# Altium footprint library MODULE_DC2DC.PcbLib: 48 footprints (part 1 of 3)
Each footprint in its own frame and in the unit in brackets; x right, y up, seen from the top. Pads: shape width x height; smd on the part's side, far side on the other; paste and mask are expansions set on the pad; w line width, h text height; cw(c..) or ccw(c..) is an arc to the next point about the centre after c.
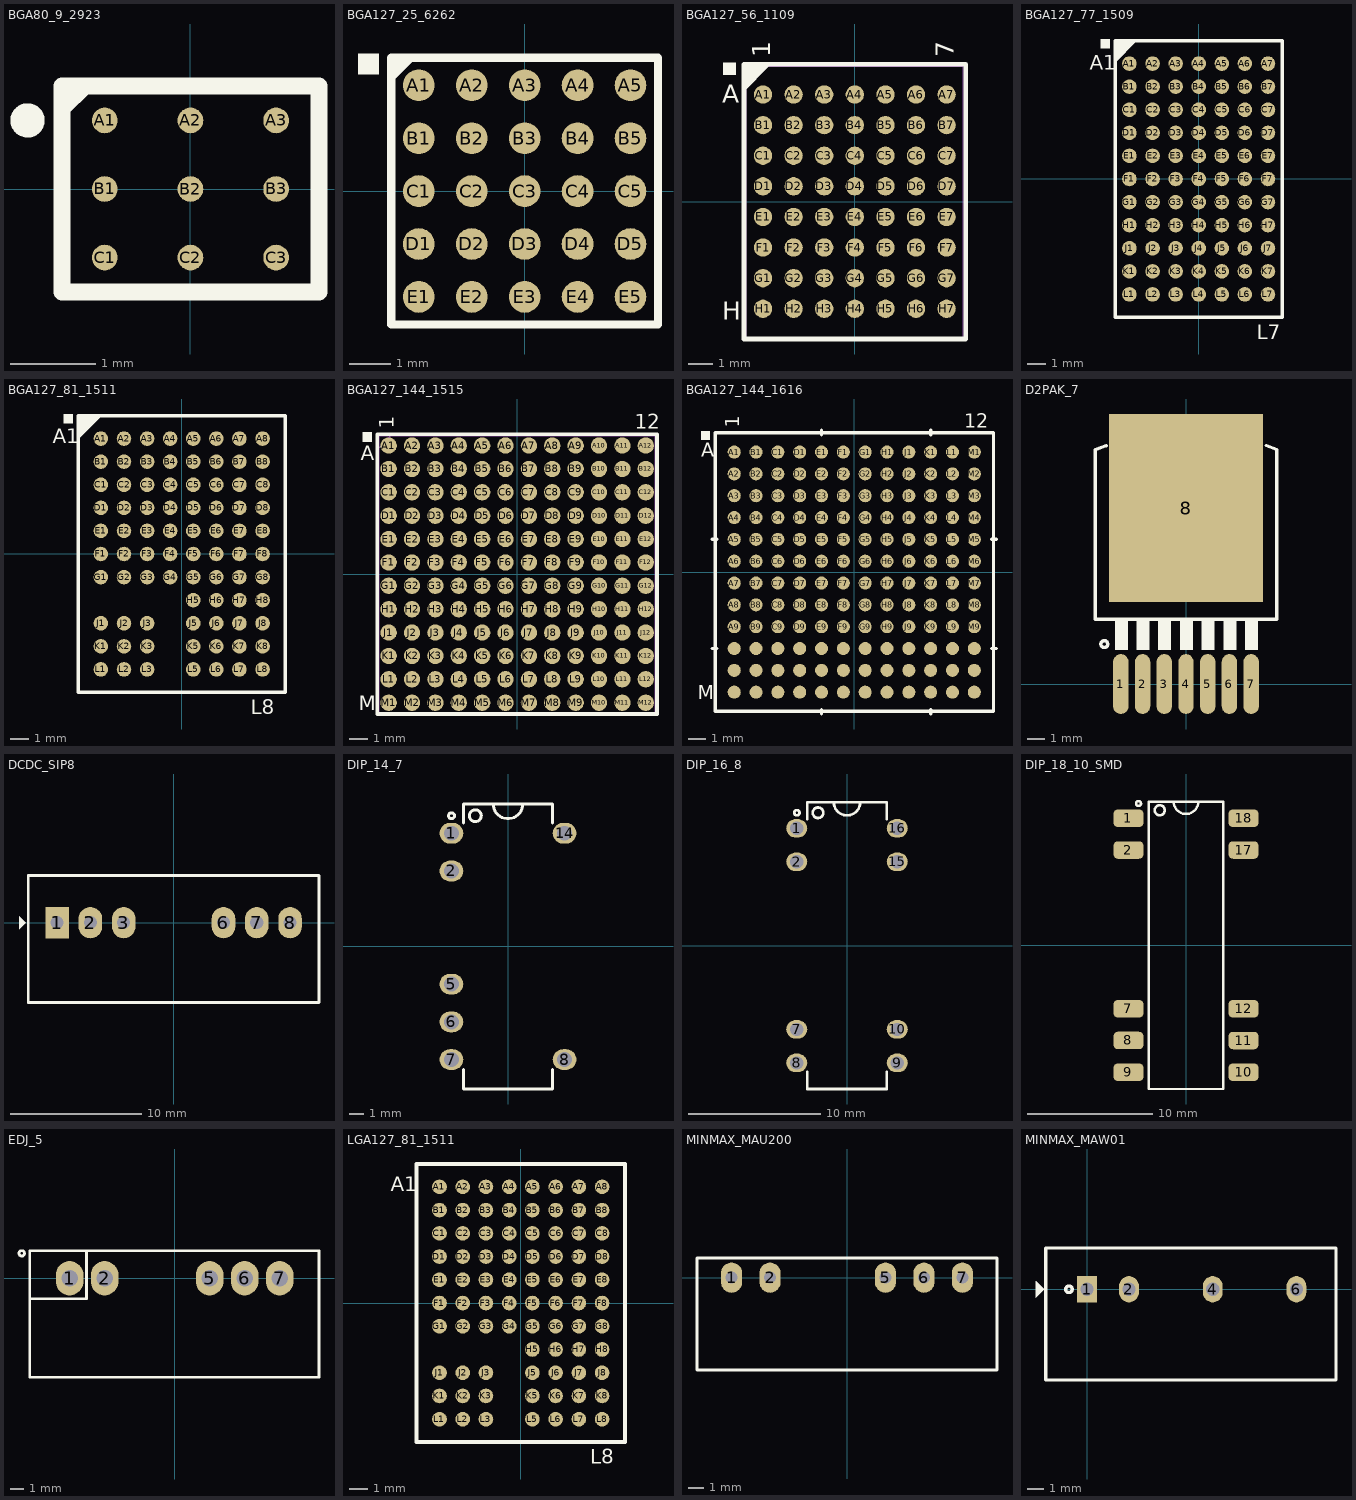
[diagram p0: the footprints below, top view; thin cyan lines are the x and y axes]

## BGA80_9_2923 [mm] "Module BGA, µSIP, 2.3x2.9x1mm, pitch 0.8mm"
pads (9):
  round 0.3 smd paste+0 mask+0.05: A1(-1,0.8) A2(0,0.8) A3(1,0.8) B1(-1,0) B2(0,0) B3(1,0) C1(-1,-0.8) C2(0,-0.8) C3(1,-0.8)
Top Overlay:
  circle w0.2: c-1.9,0.8 r0.1
  region: -1.5,1.2 -1.1,1.2 -1.5,0.8
  lines w0.2: -1.5,-1.2 -1.5,1.2 1.5,1.2 1.5,-1.2 -1.5,-1.2
3D body "SIP0009B.stp": height 1, standoff 0, extent -1.45,-1.15 1.45,1.15

## BGA127_25_6262 [mil] "BGA 5X5ball, pitch: 1.27mm, 6.25X6.25mm"
pads (25):
  round 30 smd mask+1.97: A1(-100,100) A2(-50,100) A3(0,100) A4(50,100) A5(100,100) B1(-100,50) B2(-50,50) B3(0,50) B4(50,50) B5(100,50) C1(-100,0) C2(-50,0) C3(0,0) C4(50,0) C5(100,0) D1(-100,-50) D2(-50,-50) D3(0,-50) D4(50,-50) D5(100,-50) E1(-100,-100) E2(-50,-100) E3(0,-100) E4(50,-100) E5(100,-100)
Top Overlay:
  region: -137.8,129.92 -137.8,110.24 -157.48,110.24 -157.48,129.92
  region: -102.36,125.98 -125.98,125.98 -125.98,102.36
  lines w7.87: -125.98,-125.98 125.98,-125.98 125.98,125.98 -125.98,125.98 -125.98,-125.98
3D body "LTM4622IY#PBF.STEP": height 95.28, standoff -7.87, extent -123.03,-123.03 123.03,123.03

## BGA127_56_1109 [mil] "LTM4642, BGA 7X8ball, pitch: 1.27mm, 9X11X5mm"
height 196.85
pads (56):
  round 30 smd paste+0 mask+0: A1(-150,175) A2(-100,175) A3(-50,175) A4(0,175) A5(50,175) A6(100,175) A7(150,175) B1(-150,125) B2(-100,125) B3(-50,125) B4(0,125) B5(50,125) B6(100,125) B7(150,125) C1(-150,75) C2(-100,75) C3(-50,75) C4(0,75) C5(50,75) C6(100,75) C7(150,75) D1(-150,25) D2(-100,25) D3(-50,25) D4(0,25) D5(50,25) D6(100,25) D7(150,25) E1(-150,-25) E2(-100,-25) E3(-50,-25) E4(0,-25) E5(50,-25) E6(100,-25) E7(150,-25) F1(-150,-75) F2(-100,-75) F3(-50,-75) F4(0,-75) F5(50,-75) F6(100,-75) F7(150,-75) G1(-150,-125) G2(-100,-125) G3(-50,-125) G4(0,-125) G5(50,-125) G6(100,-125) G7(150,-125) H1(-150,-175) H2(-100,-175) H3(-50,-175) H4(0,-175) H5(50,-175) H6(100,-175) H7(150,-175)
Top Overlay:
  region: -137.07,224.71 -184.32,224.71 -184.32,177.46
  region: -194.94,227.2 -194.94,207.52 -214.62,207.52 -214.62,227.2
  lines w7.87: -181.1,-224.41 -181.1,224.41 181.1,224.41 181.1,-224.41 -181.1,-224.41
  text "7" at 161.42,236.22 h29.53
  text "1" at -137.8,236.22 h29.53
  text "H" at -216.54,-192.91 h29.53
  text "A" at -216.54,161.42 h29.53
Mechanical 13:
  lines w1: -177,196.5 -152,221.5 ; -177,-221.5 -177,221.5 177,221.5 177,-221.5 -177,-221.5
3D body "BGA56_9X11P25_ADI.step": height 202.09, standoff 0, extent -177.01,-221.5 177.01,221.5

## BGA127_77_1509 [mm] "LTM8026, BGA 8X11ball, pitch: 1.27mm, 9X15mm"
height 5
pads (77):
  round 0.8 smd mask-0.075: A1(-3.81,6.35) A2(-2.54,6.35) A3(-1.27,6.35) A4(0,6.35) A5(1.27,6.35) A6(2.54,6.35) A7(3.81,6.35) B1(-3.81,5.08) B2(-2.54,5.08) B3(-1.27,5.08) B4(0,5.08) B5(1.27,5.08) B6(2.54,5.08) B7(3.81,5.08) C1(-3.81,3.81) C2(-2.54,3.81) C3(-1.27,3.81) C4(0,3.81) C5(1.27,3.81) C6(2.54,3.81) C7(3.81,3.81) D1(-3.81,2.54) D2(-2.54,2.54) D3(-1.27,2.54) D4(0,2.54) D5(1.27,2.54) D6(2.54,2.54) D7(3.81,2.54) E1(-3.81,1.27) E2(-2.54,1.27) E3(-1.27,1.27) E4(0,1.27) E5(1.27,1.27) E6(2.54,1.27) E7(3.81,1.27) F1(-3.81,0) F2(-2.54,0) F3(-1.27,0) F4(0,0) F5(1.27,0) F6(2.54,0) F7(3.81,0) G1(-3.81,-1.27) G2(-2.54,-1.27) G3(-1.27,-1.27) G4(0,-1.27) G5(1.27,-1.27) G6(2.54,-1.27) G7(3.81,-1.27) H1(-3.81,-2.54) H2(-2.54,-2.54) H3(-1.27,-2.54) H4(0,-2.54) H5(1.27,-2.54) H6(2.54,-2.54) H7(3.81,-2.54) J1(-3.81,-3.81) J2(-2.54,-3.81) J3(-1.27,-3.81) J4(0,-3.81) J5(1.27,-3.81) J6(2.54,-3.81) J7(3.81,-3.81) K1(-3.81,-5.08) K2(-2.54,-5.08) K3(-1.27,-5.08) K4(0,-5.08) K5(1.27,-5.08) K6(2.54,-5.08) K7(3.81,-5.08) L1(-3.81,-6.35) L2(-2.54,-6.35) L3(-1.27,-6.35) L4(0,-6.35) L5(1.27,-6.35) L6(2.54,-6.35) L7(3.81,-6.35)
Top Overlay:
  region: -3.4,7.6 -4.6,7.6 -4.6,6.4
  region: -4.9,7.7 -4.9,7.2 -5.4,7.2 -5.4,7.7
  lines w0.2: -4.6,-7.6 -4.6,7.6 4.6,7.6 4.6,-7.6 -4.6,-7.6
  text "L7" at 3.2,-8.8 h0.8
  text "A1" at -6,6 h0.8
3D body: height 5, standoff 0, extent -4.5,-7.5 4.5,7.5

## BGA127_81_1511 [mm] "LTM8026, BGA 8X11ball, pitch: 1.27mm, 15x11.25mm"
height 3.4
pads (81):
  round 0.8 smd: A1(-4.445,6.35) A2(-3.175,6.35) A3(-1.905,6.35) A4(-0.635,6.35) A5(0.635,6.35) A6(1.905,6.35) A7(3.175,6.35) A8(4.445,6.35) B1(-4.445,5.08) B2(-3.175,5.08) B3(-1.905,5.08) B4(-0.635,5.08) B5(0.635,5.08) B6(1.905,5.08) B7(3.175,5.08) B8(4.445,5.08) C1(-4.445,3.81) C2(-3.175,3.81) C3(-1.905,3.81) C4(-0.635,3.81) C5(0.635,3.81) C6(1.905,3.81) C7(3.175,3.81) C8(4.445,3.81) D1(-4.445,2.54) D2(-3.175,2.54) D3(-1.905,2.54) D4(-0.635,2.54) D5(0.635,2.54) D6(1.905,2.54) D7(3.175,2.54) D8(4.445,2.54) E1(-4.445,1.27) E2(-3.175,1.27) E3(-1.905,1.27) E4(-0.635,1.27) E5(0.635,1.27) E6(1.905,1.27) E7(3.175,1.27) E8(4.445,1.27) F1(-4.445,0) F2(-3.175,0) F3(-1.905,0) F4(-0.635,0) F5(0.635,0) F6(1.905,0) F7(3.175,0) F8(4.445,0) G1(-4.445,-1.27) G2(-3.175,-1.27) G3(-1.905,-1.27) G4(-0.635,-1.27) G5(0.635,-1.27) G6(1.905,-1.27) G7(3.175,-1.27) G8(4.445,-1.27) H5(0.635,-2.54) H6(1.905,-2.54) H7(3.175,-2.54) H8(4.445,-2.54) J1(-4.445,-3.81) J2(-3.175,-3.81) J3(-1.905,-3.81) J5(0.635,-3.81) J6(1.905,-3.81) J7(3.175,-3.81) J8(4.445,-3.81) K1(-4.445,-5.08) K2(-3.175,-5.08) K3(-1.905,-5.08) K5(0.635,-5.08) K6(1.905,-5.08) K7(3.175,-5.08) K8(4.445,-5.08) L1(-4.445,-6.35) L2(-3.175,-6.35) L3(-1.905,-6.35) L5(0.635,-6.35) L6(1.905,-6.35) L7(3.175,-6.35) L8(4.445,-6.35)
Top Overlay:
  region: -6,7.7 -6,7.2 -6.5,7.2 -6.5,7.7
  region: -4.4,7.6 -5.7,7.6 -5.7,6.3
  lines w0.2: -5.7,-7.6 5.7,-7.6 5.7,7.6 -5.7,7.6 -5.7,-7.6
  text "A1" at -7.1,6.1 h0.8
  text "L8" at 3.8,-8.8 h0.8
3D body: height 3.4, standoff 0, extent -5.6,-7.5 5.6,7.5

## BGA127_144_1515 [mil] "BGA 12X12ball, pitch: 1.27mm, 15x15x5mm"
height 196.85
pads (144):
  round 35 smd paste+0 mask+0: A1(-275,275) A2(-225,275) A3(-175,275) A4(-125,275) A5(-75,275) A6(-25,275) A7(25,275) A8(75,275) A9(125,275) A10(175,275) A11(225,275) A12(275,275) B1(-275,225) B2(-225,225) B3(-175,225) B4(-125,225) B5(-75,225) B6(-25,225) B7(25,225) B8(75,225) B9(125,225) B10(175,225) B11(225,225) B12(275,225) C1(-275,175) C2(-225,175) C3(-175,175) C4(-125,175) C5(-75,175) C6(-25,175) C7(25,175) C8(75,175) C9(125,175) C10(175,175) C11(225,175) C12(275,175) D1(-275,125) D2(-225,125) D3(-175,125) D4(-125,125) D5(-75,125) D6(-25,125) D7(25,125) D8(75,125) D9(125,125) D10(175,125) D11(225,125) D12(275,125) E1(-275,75) E2(-225,75) E3(-175,75) E4(-125,75) E5(-75,75) E6(-25,75) E7(25,75) E8(75,75) E9(125,75) E10(175,75) E11(225,75) E12(275,75) F1(-275,25) F2(-225,25) F3(-175,25) F4(-125,25) F5(-75,25) F6(-25,25) F7(25,25) F8(75,25) F9(125,25) F10(175,25) F11(225,25) F12(275,25) G1(-275,-25) G2(-225,-25) G3(-175,-25) G4(-125,-25) G5(-75,-25) G6(-25,-25) G7(25,-25) G8(75,-25) G9(125,-25) G10(175,-25) G11(225,-25) G12(275,-25) H1(-275,-75) H2(-225,-75) H3(-175,-75) H4(-125,-75) H5(-75,-75) H6(-25,-75) H7(25,-75) H8(75,-75) H9(125,-75) H10(175,-75) H11(225,-75) H12(275,-75) J1(-275,-125) J2(-225,-125) J3(-175,-125) J4(-125,-125) J5(-75,-125) J6(-25,-125) J7(25,-125) J8(75,-125) J9(125,-125) J10(175,-125) J11(225,-125) J12(275,-125) K1(-275,-175) K2(-225,-175) K3(-175,-175) K4(-125,-175) K5(-75,-175) K6(-25,-175) K7(25,-175) K8(75,-175) K9(125,-175) K10(175,-175) K11(225,-175) K12(275,-175) L1(-275,-225) L2(-225,-225) L3(-175,-225) L4(-125,-225) L5(-75,-225) L6(-25,-225) L7(25,-225) L8(75,-225) L9(125,-225) L10(175,-225) L11(225,-225) L12(275,-225) M1(-275,-275) M2(-225,-275) M3(-175,-275) M4(-125,-275) M5(-75,-275) M6(-25,-275) M7(25,-275) M8(75,-275) M9(125,-275) M10(175,-275) M11(225,-275) M12(275,-275)
Top Overlay:
  region: -311.02,303.15 -311.02,283.46 -330.71,283.46 -330.71,303.15
  lines w7.87: -299.21,-299.21 -299.21,299.21 299.21,299.21 299.21,-299.21 -299.21,-299.21
  text "A" at -334.65,244.09 h31.5
  text "M" at -338.58,-291.34 h31.5
  text "1" at -263.78,311.02 h31.5
  text "12" at 251.97,311.02 h31.5
Mechanical 13:
  lines w1: -295.5,270.5 -270.5,295.5 ; -295.5,-295.5 295.5,-295.5 295.5,295.5 -295.5,295.5 -295.5,-295.5
3D body "BGA-144_15X15-2_LIT.step": height 205.12, standoff -0.02, extent -295.51,-295.51 295.51,295.51

## BGA127_144_1616 [mil] "BGA 12X12ball, pitch: 1.27mm, 16x16x5mm"
height 196.85
pads (144):
  round 30 smd paste+0 mask+0: A1(-275,275) A2(-275,225) A3(-275,175) A4(-275,125) A5(-275,75) A6(-275,25) A7(-275,-25) A8(-275,-75) A9(-275,-125) A10(-275,-175) A11(-275,-225) A12(-275,-275) B1(-225,275) B2(-225,225) B3(-225,175) B4(-225,125) B5(-225,75) B6(-225,25) B7(-225,-25) B8(-225,-75) B9(-225,-125) B10(-225,-175) B11(-225,-225) B12(-225,-275) C1(-175,275) C2(-175,225) C3(-175,175) C4(-175,125) C5(-175,75) C6(-175,25) C7(-175,-25) C8(-175,-75) C9(-175,-125) C10(-175,-175) C11(-175,-225) C12(-175,-275) D1(-125,275) D2(-125,225) D3(-125,175) D4(-125,125) D5(-125,75) D6(-125,25) D7(-125,-25) D8(-125,-75) D9(-125,-125) D10(-125,-175) D11(-125,-225) D12(-125,-275) E1(-75,275) E2(-75,225) E3(-75,175) E4(-75,125) E5(-75,75) E6(-75,25) E7(-75,-25) E8(-75,-75) E9(-75,-125) E10(-75,-175) E11(-75,-225) E12(-75,-275) F1(-25,275) F2(-25,225) F3(-25,175) F4(-25,125) F5(-25,75) F6(-25,25) F7(-25,-25) F8(-25,-75) F9(-25,-125) F10(-25,-175) F11(-25,-225) F12(-25,-275) G1(25,275) G2(25,225) G3(25,175) G4(25,125) G5(25,75) G6(25,25) G7(25,-25) G8(25,-75) G9(25,-125) G10(25,-175) G11(25,-225) G12(25,-275) H1(75,275) H2(75,225) H3(75,175) H4(75,125) H5(75,75) H6(75,25) H7(75,-25) H8(75,-75) H9(75,-125) H10(75,-175) H11(75,-225) H12(75,-275) J1(125,275) J2(125,225) J3(125,175) J4(125,125) J5(125,75) J6(125,25) J7(125,-25) J8(125,-75) J9(125,-125) J10(125,-175) J11(125,-225) J12(125,-275) K1(175,275) K2(175,225) K3(175,175) K4(175,125) K5(175,75) K6(175,25) K7(175,-25) K8(175,-75) K9(175,-125) K10(175,-175) K11(175,-225) K12(175,-275) L1(225,275) L2(225,225) L3(225,175) L4(225,125) L5(225,75) L6(225,25) L7(225,-25) L8(225,-75) L9(225,-125) L10(225,-175) L11(225,-225) L12(225,-275) M1(275,275) M2(275,225) M3(275,175) M4(275,125) M5(275,75) M6(275,25) M7(275,-25) M8(275,-75) M9(275,-125) M10(275,-175) M11(275,-225) M12(275,-275)
Top Overlay:
  region: -330.71,322.83 -330.71,303.15 -350.39,303.15 -350.39,322.83
  lines w7.87: -325,-175 -315,-175 ; -325,75 -315,75 ; -75,-325 -75,-315 ; -75,315 -75,325 ; 175,-325 175,-315 ; 175,315 175,325 ; 315,-175 325,-175 ; 315,75 325,75 ; -318.9,-318.9 -318.9,318.9 318.9,318.9 318.9,-318.9 -318.9,-318.9
  text "A" at -350.39,263.78 h31.5
  text "M" at -358.27,-291.34 h31.5
  text "1" at -263.78,330.71 h31.5
  text "12" at 251.97,330.71 h31.5
3D body "BGA144_16X16_ADI.step": height 205.12, standoff 0, extent -315,-315 315,315

## D2PAK_7 [mm] "TO-263-7, D2PAK-7, NDW-7, TO-PMOD-7"
pads (8):
  oval 0.9x3.5 smd: 1(-3.81,0) 2(-2.54,0) 3(-1.27,0) 4(0,0) 5(1.27,0) 6(2.54,0) 7(3.81,0)
  rect 9x11 smd: 8(0,10.3)
Top Overlay:
  circle w0.2: c-4.779,2.34 r0.2
  rectangle: 3.454,2 4.216,3.8
  rectangle: 2.184,2 2.946,3.8
  rectangle: 0.914,2 1.676,3.8
  rectangle: -0.356,2 0.406,3.8
  rectangle: -1.626,2 -0.864,3.8
  rectangle: -2.896,2 -2.134,3.8
  rectangle: -4.166,2 -3.404,3.8
  lines w0.2: -4.658,13.952 -5.3,13.709 -5.3,3.8 5.3,3.8 5.3,13.724 4.684,13.958
3D body "User Library-D2PAK-7.step": height 4.5, standoff 0, extent -5.2,-1.6 5.2,14.074

## DCDC_SIP8 [mm] "DC-DC Module, MINMAX MCWI03, MCWI05"
height 0.254
pads (6):
  rect 1.8x2.4 hole 1: 1(-8.89,0)
  oval 1.8x2.4 hole 1: 2(-6.35,0) 3(-3.81,0) 6(3.81,0) 7(6.35,0) 8(8.89,0)
Top Overlay:
  region: -11.3,0 -11.8,0.5 -11.8,-0.5
  lines w0.2: -11.1,-6.1 11.1,-6.1 11.1,3.6 -11.1,3.6 -11.1,-6.1
3D body: height 12, standoff 0, extent -11,-6 11,3.5

## DIP_14_7 [mm] "DIP, pitch 2.54mm, 300mil Width"
pads (7):
  oval 1.6x1.4 / inner round 1.4 / far side oval 2.2x1.4 hole 1: 1(-3.81,7.62) 2(-3.81,5.08) 5(-3.81,-2.54) 6(-3.81,-5.08) 7(-3.81,-7.62) 8(3.81,-7.62) 14(3.81,7.62)
Top Overlay:
  circle w0.2: c-3.8,8.8 r0.2
  circle w0.2: c-2.2,8.8 r0.4
  lines w0.2: -3,-8.3 -3,-9.6 3,-9.6 3,-8.3 ; -3,8.3 -3,9.6 3,9.6 3,8.3 ; -1,9.6 ccw(c0,9.6) 1,9.6
3D body "CircuitWorks-DIP-14.step": height 3.81, standoff -3.17, extent -4,-9.525 4,9.525

## DIP_16_8 [mm] "DIP, pitch 2.54mm, 300mil Width 8PIN NVF"
pads (8):
  oval 1.6x1.4 / inner round 1.4 / far side oval 2.2x1.4 hole 1: 1(-3.81,8.89) 2(-3.81,6.35) 7(-3.81,-6.35) 8(-3.81,-8.89) 9(3.81,-8.89) 10(3.81,-6.35) 15(3.81,6.35) 16(3.81,8.89)
Top Overlay:
  circle w0.2: c-2.2,10.07 r0.4
  circle w0.2: c-3.8,10.07 r0.2
  lines w0.2: -3,-9.57 -3,-10.87 3,-10.87 3,-9.57 ; -3,9.57 -3,10.87 3,10.87 3,9.57 ; -1,10.87 ccw(c0,10.87) 1,10.87
3D body "User Library-ISO_DIP_NVF.STEP": height 5.33, standoff -3.81, extent -3.995,-10.67 3.995,10.67

## DIP_18_10_SMD [mm] "DIP, pitch 2.54mm, 300mil Width 10PIN DVS SOP-10"
pads (10):
  rrect50% 2.4x1.4 smd: 1(-4.6,10.16) 2(-4.6,7.62) 7(-4.6,-5.08) 8(-4.6,-7.62) 9(-4.6,-10.16) 10(4.6,-10.16) 11(4.6,-7.62) 12(4.6,-5.08) 17(4.6,7.62) 18(4.6,10.16)
Top Overlay:
  circle w0.2: c-2.1,10.8 r0.4
  circle w0.2: c-3.8,11.34 r0.2
  lines w0.2: -1,11.5 ccw(c0,11.5) 1,11.5 ; -3,-11.5 -3,11.5 3,11.5 3,-11.5 -3,-11.5
3D body "DCR022405P-U_700.STEP": height 5.33, standoff 0, extent -5.25,-11.43 5.25,11.43

## EDJ_5 [mm] "EDJ R-PDSS-T5 TI 10X7.6mm"
pads (5):
  oval 2x2.5 hole 1.2 mask+0.1: 1(-7.62,0) 2(-5.08,0) 5(2.54,0) 6(5.08,0) 7(7.62,0)
Top Overlay:
  circle w0.2: c-11.1,1.8 r0.2
  lines w0.2: -10.52,-1.5 -6.4,-1.5 -6.4,2 ; -10.52,-7.2 -10.52,2 10.48,2 10.48,-7.2 -10.52,-7.2
3D body: height 1, standoff -2, extent 7.37,-0.25 7.87,0.25
3D body: height 1, standoff -2, extent 4.83,-0.25 5.33,0.25
3D body: height 1, standoff -2, extent 2.29,-0.25 2.79,0.25
3D body: height 1, standoff -2, extent -5.33,-0.25 -4.83,0.25
3D body: height 1, standoff -2, extent -7.87,-0.25 -7.37,0.25
3D body: height 10, standoff 0, extent -9.82,-6.4 9.78,-0.2

## LGA127_81_1511 [mm] "LTM8026, LGA 8X11ball, pitch: 1.27mm, 15x11.25mm"
height 2.8
pads (81):
  round 0.8 smd mask-0.075: A1(-4.445,6.35) A2(-3.175,6.35) A3(-1.905,6.35) A4(-0.635,6.35) A5(0.635,6.35) A6(1.905,6.35) A7(3.175,6.35) A8(4.445,6.35) B1(-4.445,5.08) B2(-3.175,5.08) B3(-1.905,5.08) B4(-0.635,5.08) B5(0.635,5.08) B6(1.905,5.08) B7(3.175,5.08) B8(4.445,5.08) C1(-4.445,3.81) C2(-3.175,3.81) C3(-1.905,3.81) C4(-0.635,3.81) C5(0.635,3.81) C6(1.905,3.81) C7(3.175,3.81) C8(4.445,3.81) D1(-4.445,2.54) D2(-3.175,2.54) D3(-1.905,2.54) D4(-0.635,2.54) D5(0.635,2.54) D6(1.905,2.54) D7(3.175,2.54) D8(4.445,2.54) E1(-4.445,1.27) E2(-3.175,1.27) E3(-1.905,1.27) E4(-0.635,1.27) E5(0.635,1.27) E6(1.905,1.27) E7(3.175,1.27) E8(4.445,1.27) F1(-4.445,0) F2(-3.175,0) F3(-1.905,0) F4(-0.635,0) F5(0.635,0) F6(1.905,0) F7(3.175,0) F8(4.445,0) G1(-4.445,-1.27) G2(-3.175,-1.27) G3(-1.905,-1.27) G4(-0.635,-1.27) G5(0.635,-1.27) G6(1.905,-1.27) G7(3.175,-1.27) G8(4.445,-1.27) H5(0.635,-2.54) H6(1.905,-2.54) H7(3.175,-2.54) H8(4.445,-2.54) J1(-4.445,-3.81) J2(-3.175,-3.81) J3(-1.905,-3.81) J5(0.635,-3.81) J6(1.905,-3.81) J7(3.175,-3.81) J8(4.445,-3.81) K1(-4.445,-5.08) K2(-3.175,-5.08) K3(-1.905,-5.08) K5(0.635,-5.08) K6(1.905,-5.08) K7(3.175,-5.08) K8(4.445,-5.08) L1(-4.445,-6.35) L2(-3.175,-6.35) L3(-1.905,-6.35) L5(0.635,-6.35) L6(1.905,-6.35) L7(3.175,-6.35) L8(4.445,-6.35)
Top Overlay:
  lines w0.2: -5.7,-7.6 5.7,-7.6 5.7,7.6 -5.7,7.6 -5.7,-7.6
  text "A1" at -7.1,6.1 h0.8
  text "L8" at 3.8,-8.8 h0.8
3D body: height 2.8, standoff 0, extent -5.6,-7.5 5.6,7.5

## MINMAX_MAU200 [mm] "DC-DC Module, MAU200"
pads (5):
  oval 1.4x2 hole 0.8: 1(-7.62,0) 2(-5.08,0) 5(2.54,0) 6(5.08,0) 7(7.62,0)
Top Overlay:
  lines w0.2: -9.9,-6.1 -9.9,1.3 9.9,1.3 9.9,-6.1 -9.9,-6.1
3D body "MAU200 3D Mechanical(Vin=15, 24V).stp": height 10, standoff -3.2, extent -9.75,-6 9.75,1.2

## MINMAX_MAW01 [mm]
pads (4):
  rect 1.2x1.6 hole 0.8: 1(0,0)
  oval 1.2x1.6 hole 0.8: 2(2.54,0) 4(7.62,0) 6(12.7,0)
Top Overlay:
  circle w0.2: c-1.1,0 r0.2
  region: -2.6,0 -3.1,0.5 -3.1,-0.5
  lines w0.2: -2.5,-5.5 -2.5,2.5 15.1,2.5 15.1,-5.5 -2.5,-5.5
3D body "MAW01 3D Mechanical.stp": height 11.5, standoff -3.1, extent -2.4,-5.375 15,2.375